# EAGLE library part 691401700009 (library Wurth_Terminal_Blocks_Connectors_rev15d)
WR-TBL Terminal block - serie 401 5,0mm - Spring clamp/Screw less - Vertical entry - 09p Code:Con_TBL_Screwless_5.00_6914017000xx_691401700009 <http://katalog.we-online.de/media/images/eican/Con_TBL_Screwless_5.00_6914017000xx_pf2.jpg> Details see: http://katalog.we-online.de/en/em/691_401_700_0xx/691_401_700_009?m Created 2014-12-22, aslant tao 2014 (C) Würth Elektronik
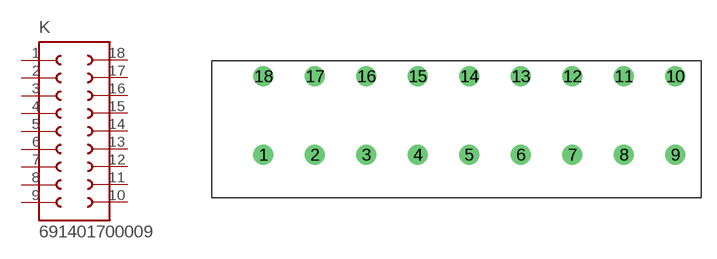
[diagram p265: symbol with the pads of 691401700009; footprint 691401700009]

Designator prefix K

## 691401700009  [691401700009]
1  1  pas
2  2  pas
3  3  pas
4  4  pas
5  5  pas
6  6  pas
7  7  pas
8  8  pas
9  9  pas
10  10  pas
11  11  pas
12  12  pas
13  13  pas
14  14  pas
15  15  pas
16  16  pas
17  17  pas
18  18  pas

## Footprint 691401700009 (pad centres in mm)
WR-TBL Serie 401 - 5.0mm Screwless Vertikal Entry - 2 mm2 Wires, 9 Pins
drill 1.3: 1 -5,0; 2 0,0; 3 5,0; 4 10,0; 5 15,0; 6 20,0; 7 25,0; 8 30,0; 9 35,0; 10 35,7.62; 11 30,7.62; 12 25,7.62; 13 20,7.62; 14 15,7.62; 15 10,7.62; 16 5,7.62; 17 0,7.62; 18 -5,7.62